# Altium footprint library Modules.PcbLib: 27 footprints (part 1 of 2)
Each footprint in its own frame and in the unit in brackets; x right, y up, seen from the top. Pads: shape width x height; smd on the part's side, far side on the other; paste and mask are expansions set on the pad; w line width, h text height; cw(c..) or ccw(c..) is an arc to the next point about the centre after c.
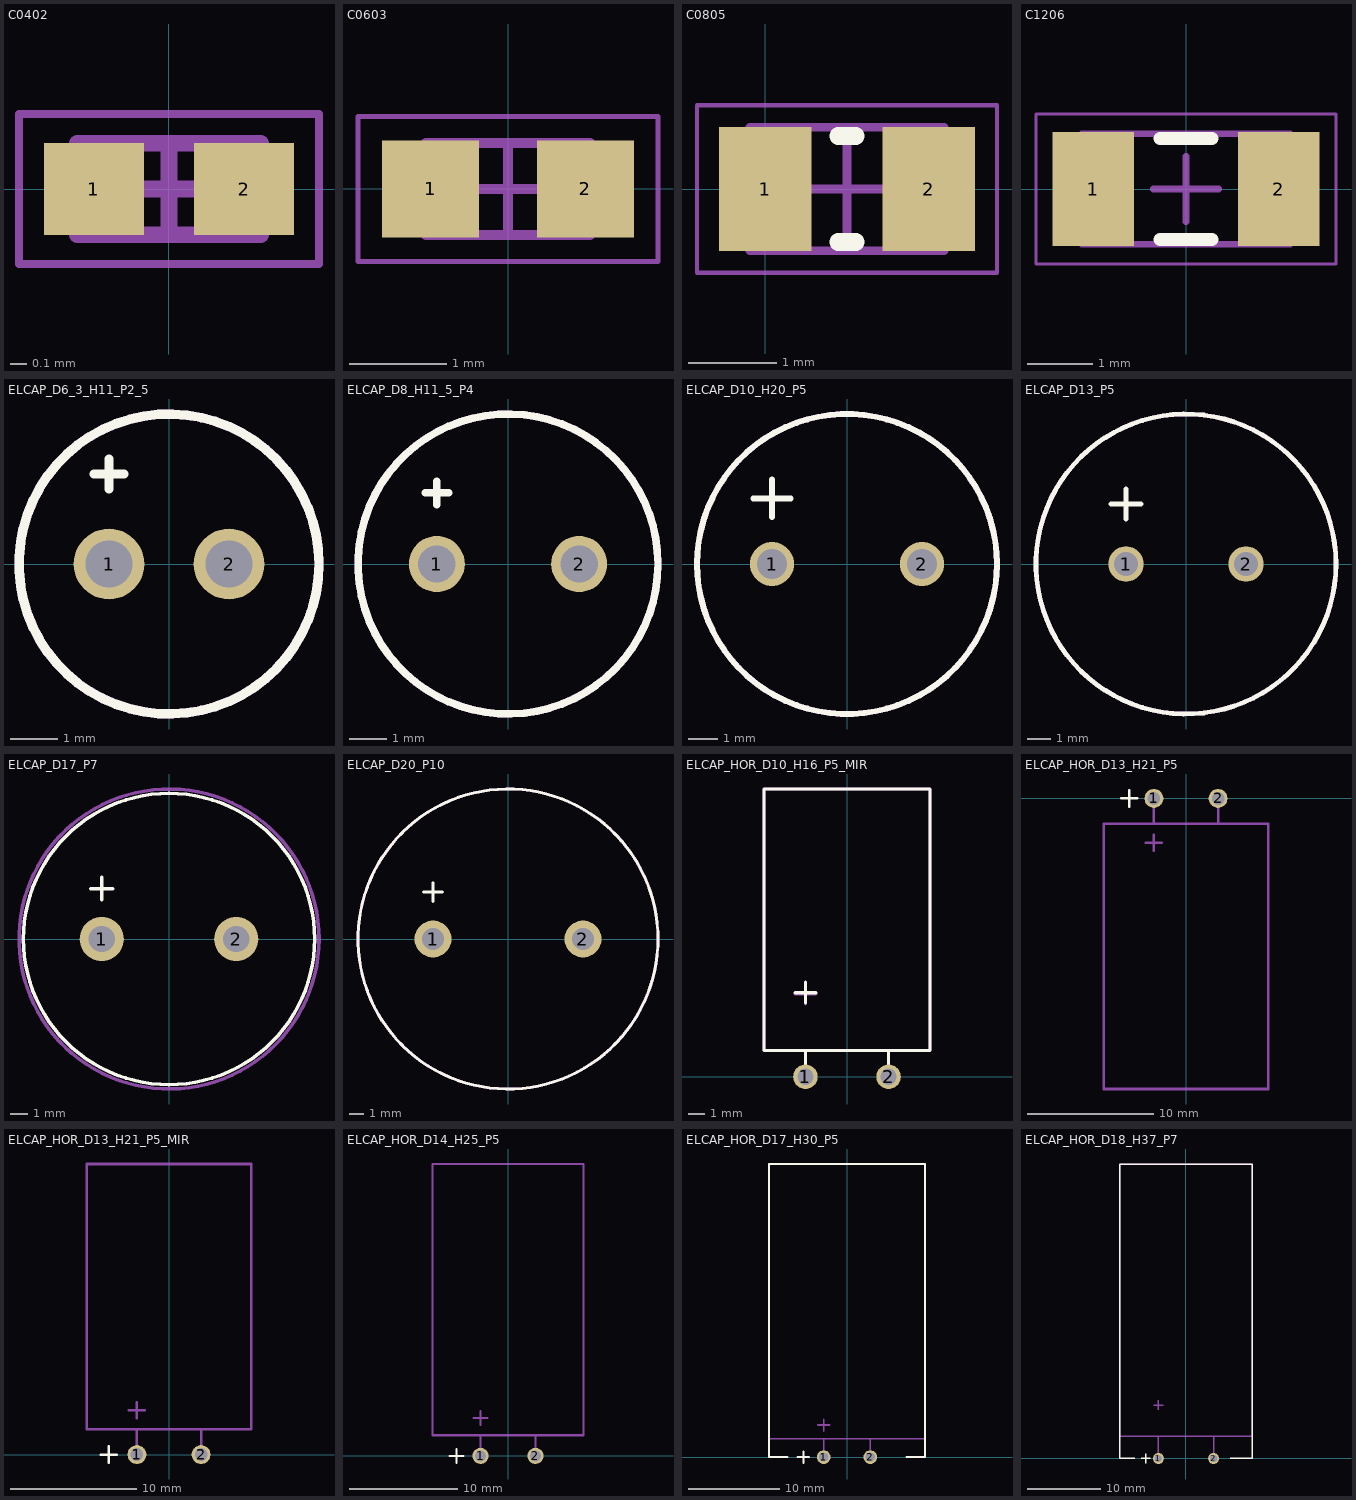
[diagram p0: the footprints below, top view; thin cyan lines are the x and y axes]

## C0402 [mm]
height 0.4
pads (2):
  rect 0.6x0.55 smd: 1(-0.45,0) 2(0.45,0)
TopAssy:
  lines w0.1: -0.55,-0.275 -0.55,0.275 0.55,0.275 0.55,-0.275 -0.55,-0.275
Mechanical 15:
  lines w0.05: -0.9,-0.45 -0.9,0.45 0.9,0.45 0.9,-0.45 -0.9,-0.45
  lines w0.1: -0.275,0 0.275,0 ; 0,-0.275 0,0.275
3D body: height 0.4, standoff 0, extent -0.35,-0.275 0.35,0.275
3D body: height 0.4, standoff 0, extent -0.55,-0.275 -0.35,0.275
3D body: height 0.4, standoff 0, extent 0.35,-0.275 0.55,0.275

## C0603 [mm]
height 0.5
pads (2):
  rect 1x1 smd: 1(-0.8,0) 2(0.8,0)
TopAssy:
  lines w0.1: -0.85,-0.475 0.85,-0.475 0.85,0.475 -0.85,0.475 -0.85,-0.475
Mechanical 15:
  lines w0.05: -1.55,-0.75 1.55,-0.75 1.55,0.75 -1.55,0.75 -1.55,-0.75
  lines w0.1: -0.475,0 0.475,0 ; 0,-0.475 0,0.475
3D body: height 0.5, standoff 0, extent 0.55,-0.475 0.85,0.475
3D body: height 0.5, standoff 0, extent -0.85,-0.475 -0.55,0.475
3D body: height 0.5, standoff 0, extent -0.55,-0.475 0.55,0.475

## C0805 [mm]
pads (2):
  rect 1.05x1.4 smd: 1(0,0) 2(1.85,0)
Top Overlay:
  lines w0.2: 0.825,-0.6 1.025,-0.6 ; 0.825,0.6 1.025,0.6
TopAssy:
  lines w0.1: -0.175,-0.7 -0.175,0.7 2.025,0.7 2.025,-0.7 -0.175,-0.7
Mechanical 15:
  lines w0.05: -0.775,-0.95 -0.775,0.95 2.625,0.95 2.625,-0.95 -0.775,-0.95
  lines w0.1: 0.425,0 1.425,0 ; 0.925,-0.5 0.925,0.5
3D body "SW3dPS-0805 SMD Capacitor.STEP": height 0.78, standoff 0, extent -0.05,-0.625 1.95,0.625

## C1206 [mm]
height 0.6
pads (2):
  rect 1.25x1.75 smd: 1(-1.425,0) 2(1.425,0)
Top Overlay:
  lines w0.2: -0.4,-0.775 0.4,-0.775 ; -0.4,0.775 0.4,0.775
TopAssy:
  lines w0.1: -1.6,-0.85 1.6,-0.85 1.6,0.85 -1.6,0.85 -1.6,-0.85
Mechanical 15:
  lines w0.05: -2.3,-1.15 2.3,-1.15 2.3,1.15 -2.3,1.15 -2.3,-1.15
  lines w0.1: -0.5,0 0.5,0 ; 0,-0.5 0,0.5
3D body: height 0.6, standoff 0, extent 1.1,-0.85 1.6,0.85
3D body: height 0.6, standoff 0, extent -1.6,-0.85 -1.1,0.85
3D body: height 0.6, standoff 0, extent -1.1,-0.85 1.1,0.85

## ELCAP_D6_3_H11_P2_5 [mm]
pads (2):
  round 1.5 hole 1: 1(-1.27,0) 2(1.27,0)
Top Overlay:
  circle w0.2: c0,0 r3.175
  lines w0.2: -1.587,1.905 -0.953,1.905 ; -1.27,1.587 -1.27,2.222
TopAssy:
  circle w0.2: c0,0 r3.175
  lines w0.2: -1.905,0 -0.635,0 ; -1.27,-0.635 -1.27,0.635
3D body "SW3dPS-Cap electro 6.3x11x2.5mm.STEP": height 11.53, standoff -3.01, extent -3.175,-3.175 3.176,3.176

## ELCAP_D8_H11_5_P4 [mm]
pads (2):
  round 1.5 hole 1: 1(-1.905,0) 2(1.905,0)
Top Overlay:
  circle w0.2: c0,0 r4.016
  lines w0.2: -2.222,1.905 -1.587,1.905 ; -1.905,1.587 -1.905,2.222
TopAssy:
  circle w0.2: c0,0 r4.016
  lines w0.2: -2.54,0 -1.27,0 ; -1.905,-0.635 -1.905,0.635
3D body "SW3dPS-Cap electro 8x11.5x3.5mm.STEP": height 12.03, standoff -3.48, extent -4.025,-4.025 4.026,4.026

## ELCAP_D10_H20_P5 [mm]
pads (2):
  round 1.5 hole 1: 1(-2.54,0) 2(2.54,0)
Top Overlay:
  circle w0.2: c0,0 r5.08
  lines w0.2: -3.175,2.222 -1.905,2.222 ; -2.54,1.587 -2.54,2.857
TopAssy:
  circle w0.2: c0,0 r5.08
  lines w0.2: -3.175,0 -1.905,0 ; -2.54,-0.635 -2.54,0.635
3D body "User Library-Cap electro 10x20x5_0mm.STEP": height 20.53, standoff -3.74, extent -5.025,-5.025 5.026,5.026

## ELCAP_D13_P5 [mm]
pads (2):
  round 1.5 hole 1: 1(-2.54,0) 2(2.54,0)
Top Overlay:
  circle w0.2: c0,0 r6.35
  lines w0.2: -3.175,2.54 -1.905,2.54 ; -2.54,1.905 -2.54,3.175
TopAssy:
  circle w0.2: c0,0 r6.35
  lines w0.2: -3.175,0 -1.905,0 ; -2.54,-0.635 -2.54,0.635
3D body: height 20, standoff 0, extent -6.5,-6.5 6.5,6.5

## ELCAP_D17_P7 [mm]
pads (2):
  round 2.5 hole 1.5: 1(-3.81,0) 2(3.81,0)
Top Overlay:
  circle w0.2: c0,0 r8.25
  lines w0.2: -4.445,2.857 -3.175,2.857 ; -3.81,2.222 -3.81,3.492
TopAssy:
  circle w0.2: c0,0 r8.5
  lines w0.2: -4.445,0 -3.175,0 ; -3.81,-0.635 -3.81,0.635
3D body: height 26, standoff 0, extent -9,-9 9,9

## ELCAP_D20_P10 [mm]
pads (2):
  round 2.5 hole 1.5: 1(-5.08,0) 2(5.08,0)
Top Overlay:
  circle w0.2: c0,0 r10.16
  lines w0.2: -5.715,3.175 -4.445,3.175 ; -5.08,2.54 -5.08,3.81
TopAssy:
  circle w0.2: c0,0 r10.16
  lines w0.2: -5.715,0 -4.445,0 ; -5.08,-0.635 -5.08,0.635
3D body: height 45, standoff 0, extent -10,-10 10,10

## ELCAP_HOR_D10_H16_P5_MIR [mm]
pads (2):
  round 1.5 hole 1: 1(-2.54,0) 2(2.54,0)
Top Overlay:
  lines w0.2: -3.175,5.143 -1.905,5.143 ; -2.54,0 -2.54,1.6 ; -2.54,4.508 -2.54,5.779 ; 2.54,-0.127 2.54,1.6 ; -5.08,1.6 -5.08,17.6 5.08,17.6 5.08,1.6 -5.08,1.6
TopAssy:
  lines w0.2: -3.175,5.08 -1.905,5.08 ; -2.54,0 -2.54,1.6 ; -2.54,4.445 -2.54,5.715 ; 2.54,0 2.54,1.6 ; -5.08,1.6 -5.08,17.6 5.08,17.6 5.08,1.6 -5.08,1.6
3D body "SW3dPS-Cap electro 10x16x5.0mm RA.STEP": height 10.13, standoff -3.58, extent -5.025,-0.4 5.025,17.589

## ELCAP_HOR_D13_H21_P5 [mm]
pads (2):
  round 1.5 hole 1: 1(-2.54,0) 2(2.54,0)
Top Overlay:
  lines w0.2: -5.143,0 -3.873,0 ; -4.508,-0.635 -4.508,0.635
TopAssy:
  lines w0.2: -3.175,-3.493 -1.905,-3.493 ; -2.54,-4.128 -2.54,-2.858 ; -2.54,-1.905 -2.54,0 ; 2.54,-1.905 2.54,0 ; -6.5,-23 -6.5,-2 6.5,-2 6.5,-23 -6.5,-23
3D body: height 6.5, standoff 0, extent 2.241,-0.3 2.84,0.297
3D body: height 6.5, standoff 0, extent -2.839,-0.3 -2.24,0.297
3D body: height 6.65, standoff 6.05, extent 2.241,-2 2.839,0
3D body: height 6.65, standoff 6.05, extent -2.839,-2 -2.241,0
3D body: height 13, standoff 0, extent -6.5,-23.032 6.5,-2.032

## ELCAP_HOR_D13_H21_P5_MIR [mm]
pads (2):
  round 1.5 hole 1: 1(-2.54,0) 2(2.54,0)
Top Overlay:
  lines w0.2: -5.397,0 -4.127,0 ; -4.763,-0.635 -4.763,0.635
TopAssy:
  lines w0.2: -3.175,3.492 -1.905,3.492 ; -2.54,0 -2.54,1.905 ; -2.54,2.857 -2.54,4.127 ; 2.54,0 2.54,1.905 ; -6.5,2 -6.5,23 6.5,23 6.5,2 -6.5,2
3D body: height 6.65, standoff 6.05, extent 2.241,0 2.839,2
3D body: height 6.65, standoff 6.05, extent -2.839,0 -2.241,2
3D body: height 6.5, standoff 0, extent 2.24,-0.297 2.839,0.3
3D body: height 6.5, standoff 0, extent -2.84,-0.297 -2.241,0.3
3D body: height 13, standoff 0, extent -6.5,2.032 6.5,23.032

## ELCAP_HOR_D14_H25_P5 [mm]
pads (2):
  round 1.5 hole 1: 1(-2.54,0) 2(2.54,0)
Top Overlay:
  lines w0.2: -5.397,0 -4.127,0 ; -4.763,-0.635 -4.763,0.635
TopAssy:
  lines w0.2: -3.175,3.492 -1.905,3.492 ; -2.54,0 -2.54,1.905 ; -2.54,2.857 -2.54,4.127 ; 2.54,0 2.54,1.905 ; -6.985,1.905 0,1.905 6.985,1.905 6.985,26.987 -6.985,26.987 -6.985,1.905
3D body: height 7, standoff 0, extent -2.84,-0.297 -2.241,0.3
3D body: height 7, standoff 0, extent 2.24,-0.297 2.839,0.3
3D body: height 7.15, standoff 6.55, extent -2.839,0 -2.241,2
3D body: height 7.15, standoff 6.55, extent 2.241,0 2.839,2
3D body: height 14, standoff 0, extent -7,2.032 7,27.032

## ELCAP_HOR_D17_H30_P5 [mm]
pads (2):
  round 1.5 hole 1: 1(-2.54,0) 2(2.54,0)
Top Overlay:
  lines w0.2: -6.5,0 -8.5,0 -8.5,32 8.5,32 8.5,0 6.5,0 ; -5.397,0 -4.127,0 ; -4.763,-0.635 -4.763,0.635
TopAssy:
  lines w0.2: -3.175,3.493 -1.905,3.493 ; -2.54,0 -2.54,1.905 ; -2.54,2.858 -2.54,4.128 ; 2.54,0 2.54,1.905 ; -8.5,2 -8.5,32 8.5,32 8.5,2 -8.5,2
3D body: height 6.5, standoff 0, extent -2.84,-0.297 -2.241,0.3
3D body: height 6.5, standoff 0, extent 2.24,-0.297 2.839,0.3
3D body: height 8.65, standoff 8.05, extent -2.839,0 -2.241,2
3D body: height 8.65, standoff 8.05, extent 2.241,0 2.839,2
3D body: height 17, standoff 0, extent -8.5,2.032 8.5,32.032

## ELCAP_HOR_D18_H37_P7 [mm]
pads (2):
  round 1.5 hole 1: 1(-3.75,0) 2(3.75,0)
Top Overlay:
  lines w0.2: -6.96,0 -9,0 -9,40 9,40 9,0 6.04,0 ; -6.107,0 -4.837,0 ; -5.472,-0.635 -5.472,0.635
TopAssy:
  lines w0.2: -4.385,7.243 -3.115,7.243 ; -3.75,0 -3.75,3 ; -3.75,6.608 -3.75,7.878 ; 3.75,0 3.75,3 ; -9,3 9,3 9,40 -9,40 -9,3
3D body: height 9.15, standoff 8.55, extent 3.451,0 4.049,3
3D body: height 9.15, standoff 8.55, extent -4.049,0 -3.451,3
3D body: height 9, standoff 0, extent 3.45,-0.297 4.049,0.3
3D body: height 9, standoff 0, extent -4.05,-0.297 -3.451,0.3
3D body: height 18, standoff 0, extent -9,3.048 9,40.048